# EAGLE library part VNC2_ICP (library FaBo-PIN)
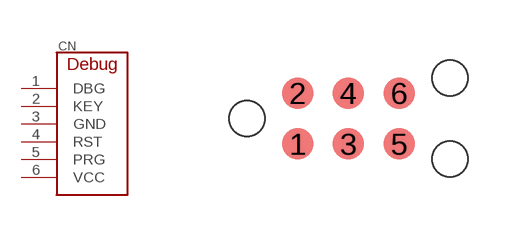
[diagram p23: symbol with the pads of TC2030; footprint TC2030]

Designator prefix CN

## VNC2_ICP  [TC2030]
1  DBG  pas
2  KEY  pas
3  GND  pas
4  RST  pas
5  PRG  pas
6  VCC  pas

## Footprint TC2030 (pad centres in mm)
smd 0.787 x 0.787: 1 -1.27,-0.635; 2 -1.27,0.635; 3 0,-0.635; 4 0,0.635; 5 1.27,-0.635; 6 1.27,0.635
hole 0.889 at -2.54,0
hole 0.889 at 2.54,-1.016
hole 0.889 at 2.54,1.016